# EAGLE library part MJS22R (library switches)
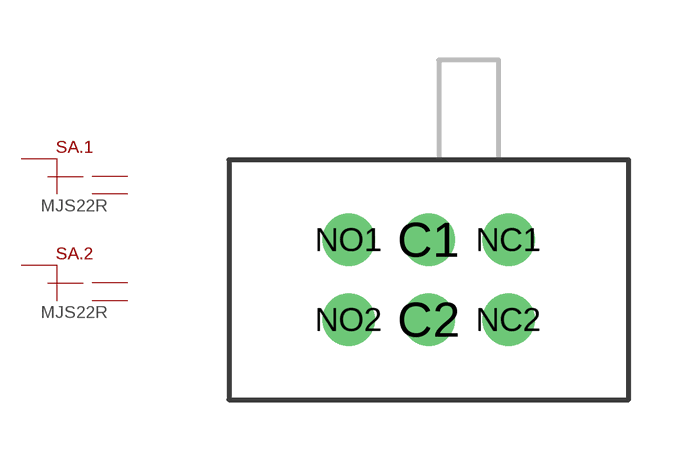
[diagram p7: symbol with the pads of APEM-MJS22R; footprint APEM-MJS22R]

Designator prefix SA; gates .1=SWITCH-2POS .2=SWITCH-2POS

## MJS22R (MOUSER: 642-MJS22R)  [APEM-MJS22R]
C1  .1:CM  pas
C2  .2:CM  pas
NC1  .1:1  pas
NC2  .2:1  pas
NO1  .1:2  pas
NO2  .2:2  pas

## Footprint APEM-MJS22R (pad centres in mm)
drill 0.8: C1 0,-2; C2 0,-4; NC1 2,-2; NC2 2,-4; NO1 -2,-2; NO2 -2,-4